# EAGLE library part WURTH_69140170008 (library Traficon)
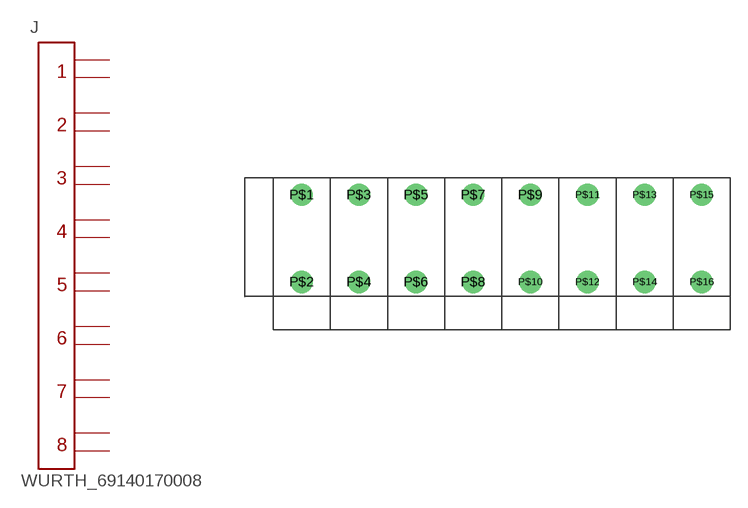
[diagram p243: symbol with the pads of WURTH_69140170008; footprint WURTH_69140170008]

Designator prefix J

## WURTH_69140170008  [WURTH_69140170008]
P$1  1
P$2  9
P$3  2
P$4  10
P$5  3
P$6  11
P$7  4
P$8  12
P$9  5
P$10  13
P$11  6
P$12  14
P$13  7
P$14  15
P$15  8
P$16  16

## Footprint WURTH_69140170008 (pad centres in mm)
drill 1.3 round: P$1 0,0; P$2 0,-7.62; P$3 5,0; P$4 5,-7.62; P$5 10,0; P$6 10,-7.62; P$7 15,0; P$8 15,-7.62; P$9 20,0; P$10 20,-7.62; P$11 25,0; P$12 25,-7.62; P$13 30,0; P$14 30,-7.62; P$15 35,0; P$16 35,-7.62